# Altium integrated library 4N25.IntLib: 1 symbol
Pins are listed as number, name and electrical type; pins without a type are passive.

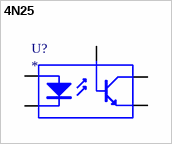
[diagram p0: symbol 4N25]

## 4N25
designator U?
datasheet: https://www.mouser.es/datasheet/2/239/775704_1-1175530.pdf; ComponentLink1Description: link; ComponentLink1URL: https://www.mouser.es/ProductDetail/Lite-On/4N25?qs=sGAEpiMZZMtXHE36kCvv30HG8%2F4XxVZf
footprint PCBComponent_1
pins: 1 A "Anode", 3 K "Cathode", 4 E "Emitter", 5 C "Collector", 6 B "Base"